# Altium schematic symbol library Mako DSP Schematic Library.SchLib: 9 symbols
Pins are listed as number, name and electrical type; pins without a type are passive.

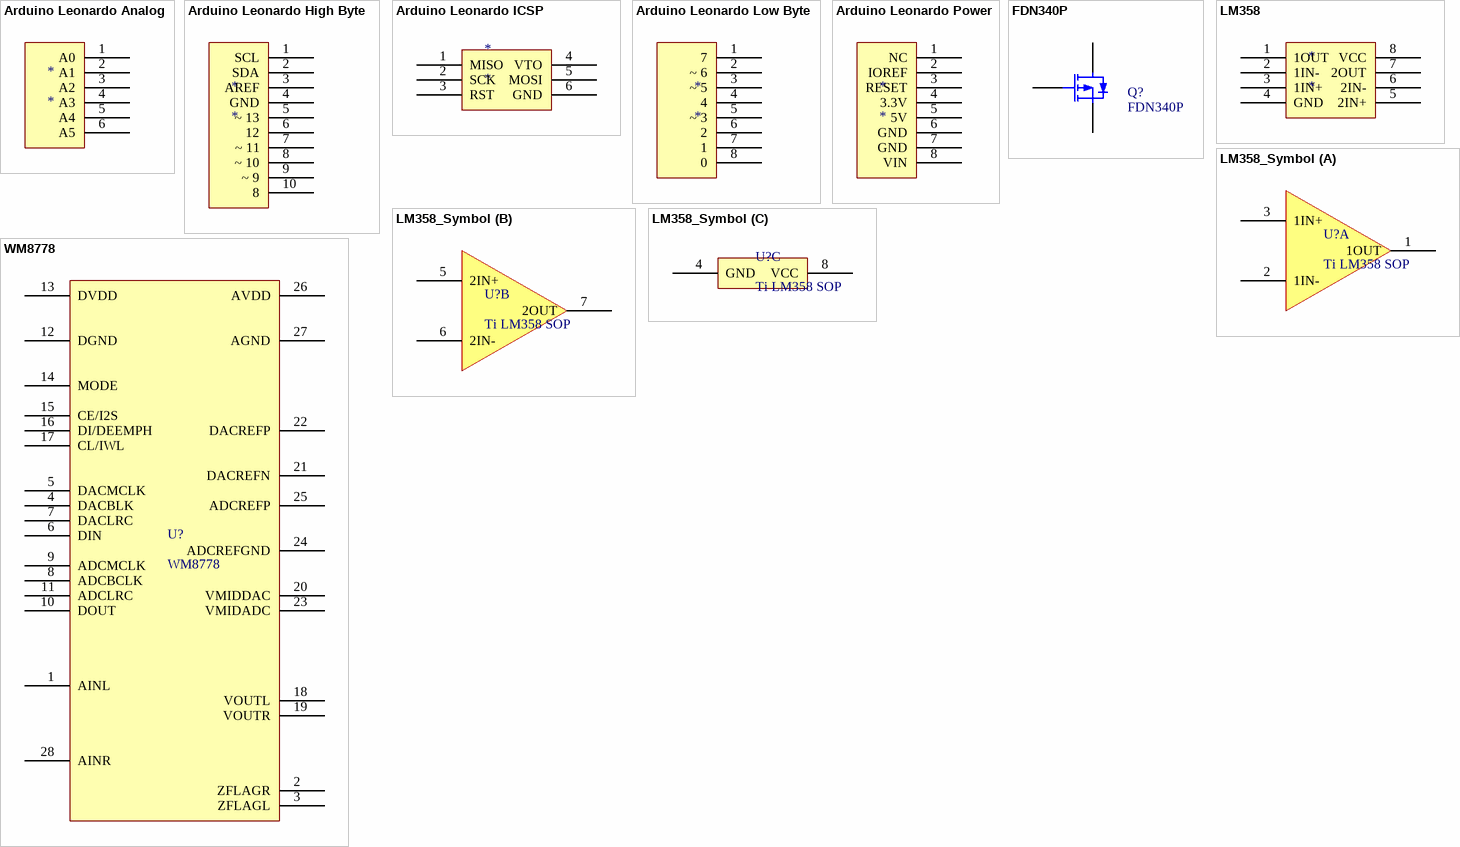
[diagram p0: symbols Arduino Leonardo Analog to WM8778]

## Arduino Leonardo Analog
designator *
footprint Arduino Leonardo Analog (Connector; Header; 6 Position)
pins: 1 A0, 2 A1, 3 A2, 4 A3, 5 A4, 6 A5

## Arduino Leonardo High Byte
designator *
footprint Arduino Leonardo High Byte
pins: 1 SCL, 2 SDA, 3 AREF, 4 GND, 5 ~ 13, 6 12, 7 ~ 11, 8 ~ 10, 9 ~ 9, 10 8

## Arduino Leonardo ICSP
designator *
footprint Arduino ICPS
pins: 1 MISO, 2 SCK, 3 RST, 4 VTO, 5 MOSI, 6 GND

## Arduino Leonardo Low Byte
designator *
footprint Arduino Leonardo Low Byte (Connector; Header; 8 Position)
pins: 1 7, 2 ~ 6, 3 ~ 5, 4, 5 ~ 3, 6 2, 7 1, 8 0

## Arduino Leonardo Power
designator *
footprint Arduino Leonardo Power (Connector; Header; 8 Position)
pins: 1 NC, 2 IOREF, 3 RESET, 4 3.3V, 5 5V, 6 GND, 7 GND, 8 VIN

## FDN340P
designator Q?
P-Channel MOSFET; Published: 8-Jun-2000; LatestRevisionDate: 17-Jul-2002; LatestRevisionNote: Re-released for DXP Platform.; PackageVersion: 1995/1996; PackageReference: E3; Publisher: Altium Limited; PackageDescription: TO, Flat Index; 3 In-Line, Axial Leads; Body Dia. 4.6mm; Lead Dia. 0.5 mm (max)
simulation model NMOS (MOSFET-N)
footprint SOT23-3N (SOT23, 3-Leads, Body 2.9x1.3mm, Pitch 0.95mm, Lead Span 2.5mm, IPC Medium Density)
pins: 1 G, 2 D, 3 S

## LM358
designator *
pins: 1 1OUT, 2 1IN-, 3 1IN+, 4 GND, 5 2IN+, 6 2IN-, 7 2OUT, 8 VCC

## LM358_Symbol
designator U?, comment Ti LM358 SOP
footprint LM358 (TSOP, 8-Leads, Body 3.00x3.00mm, Pitch 0.65mm, IPC Medium Density)
part A pins: 1 1OUT, 2 1IN-, 3 1IN+
part B pins: 5 2IN+, 6 2IN-, 7 2OUT
part C pins: 4 GND, 8 VCC

## WM8778
designator U?
footprint WM8778 (SOP, 28 Pin Wolfson Audio WM8778 Audio Codec)
pins: 1 AINL, 2 ZFLAGR, 3 ZFLAGL, 4 DACBLK, 5 DACMCLK, 6 DIN, 7 DACLRC, 8 ADCBCLK, 9 ADCMCLK, 10 DOUT, 11 ADCLRC, 12 DGND, 13 DVDD, 14 MODE, 15 CE/I2S, 16 DI/DEEMPH, 17 CL/IWL, 18 VOUTL, 19 VOUTR, 20 VMIDDAC, 21 DACREFN, 22 DACREFP, 23 VMIDADC, 24 ADCREFGND, 25 ADCREFP, 26 AVDD, 27 AGND, 28 AINR